# Altium footprint library CHIP_THR.PcbLib: 3 footprints
Each footprint in its own frame and in the unit in brackets; x right, y up, seen from the top. Pads: shape width x height; smd on the part's side, far side on the other; paste and mask are expansions set on the pad; w line width, h text height; cw(c..) or ccw(c..) is an arc to the next point about the centre after c.
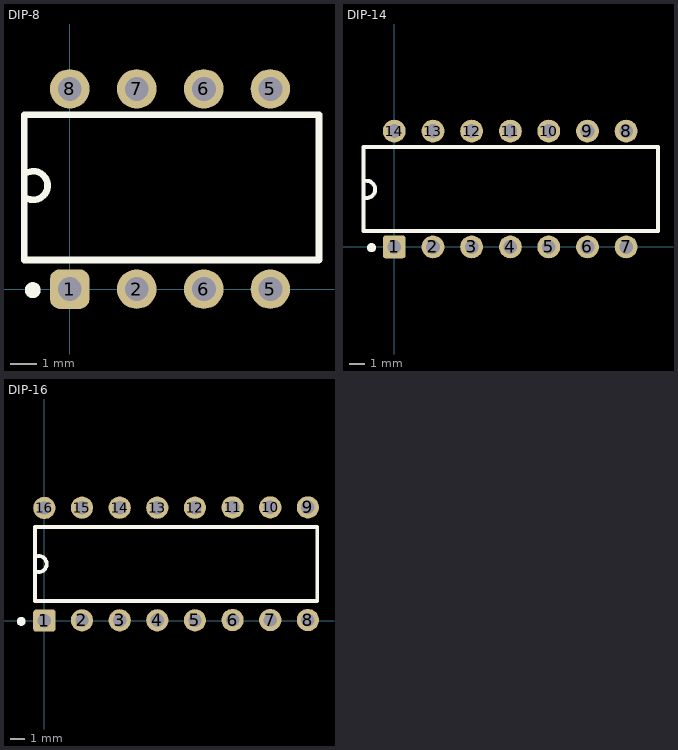
[diagram p0: the footprints below, top view; thin cyan lines are the x and y axes]

## DIP-8 [mm]
pads (8):
  rrect50% 1.5x1.5 hole 0.9 paste-2539.97 mask+0.05: 1(0,0)
  round 1.5 hole 0.9 paste-2539.97 mask+0.05: 2(2.54,0) 5(7.6,0) 5(7.6,7.58) 6(5.08,0) 6(5.08,7.58) 7(2.54,7.58) 8(0,7.58)
Top Overlay:
  circle w0.3: c-1.4,-0.04 r0.15
  lines w0.254: -1.588,3.42 ccw(c-1.38,3.92) -1.588,4.42 ; -1.72,1.1 -1.72,6.6 9.44,6.6 9.44,1.1 -1.72,1.1
3D body "CircuitWorks-DIP8.step": height 4.19, standoff -2.67, extent -1.855,-0.1 9.575,7.774

## DIP-14 [mm]
pads (14):
  rrect25% 1.5x1.5 hole 0.9 paste-2539.97 mask+0.05: 1(0,0)
  round 1.5 hole 0.9 paste-2539.97 mask+0.05: 2(2.54,0) 3(5.08,0) 4(7.62,0) 5(10.14,0) 6(12.68,0) 7(15.22,0) 8(15.22,7.6) 9(12.68,7.6) 10(10.14,7.6) 11(7.62,7.6) 12(5.08,7.6) 13(2.54,7.6) 14(0,7.6)
Top Overlay:
  circle w0.3: c-1.49,-0.05 r0.15
  lines w0.254: -1.848,3.213 ccw(c-1.815,3.775) -1.848,4.337 ; -2.015,1.05 -2.015,6.55 17.31,6.55 17.31,1.05 -2.015,1.05
3D body "User Library-DIP-14P-M02.step": height 4.36, standoff -3, extent -2.16,-0.14 17.44,7.73

## DIP-16 [mm]
pads (16):
  rrect25% 1.5x1.5 hole 0.9 paste-2539.97 mask+0.05: 1(0,0)
  round 1.5 hole 0.9 paste-2539.97 mask+0.05: 2(2.54,0.02) 3(5.08,0.02) 4(7.62,0.02) 5(10.16,0.02) 6(12.7,0.04) 7(15.24,0.04) 8(17.78,0.04) 9(17.78,7.64) 10(15.24,7.64) 11(12.7,7.64) 12(10.16,7.62) 13(7.62,7.62) 14(5.08,7.62) 15(2.54,7.62) 16(0,7.6)
Top Overlay:
  circle w0.3: c-1.56,-0.055 r0.15
  lines w0.254: -0.589,3.32 ccw(c-0.381,3.82) -0.589,4.32 ; -0.635,1.32 18.415,1.32 18.415,6.32 -0.635,6.32 -0.635,1.32
3D body "User Library-dip-16pin.step": height 5.08, standoff -4.13, extent -0.802,-0.075 18.502,7.824